# Altium footprint library Texas Instruments Footprints.PcbLib: 429 footprints (part 16 of 32)
Each footprint in its own frame and in the unit in brackets; x right, y up, seen from the top. Pads: shape width x height; smd on the part's side, far side on the other; paste and mask are expansions set on the pad; w line width, h text height; cw(c..) or ccw(c..) is an arc to the next point about the centre after c.
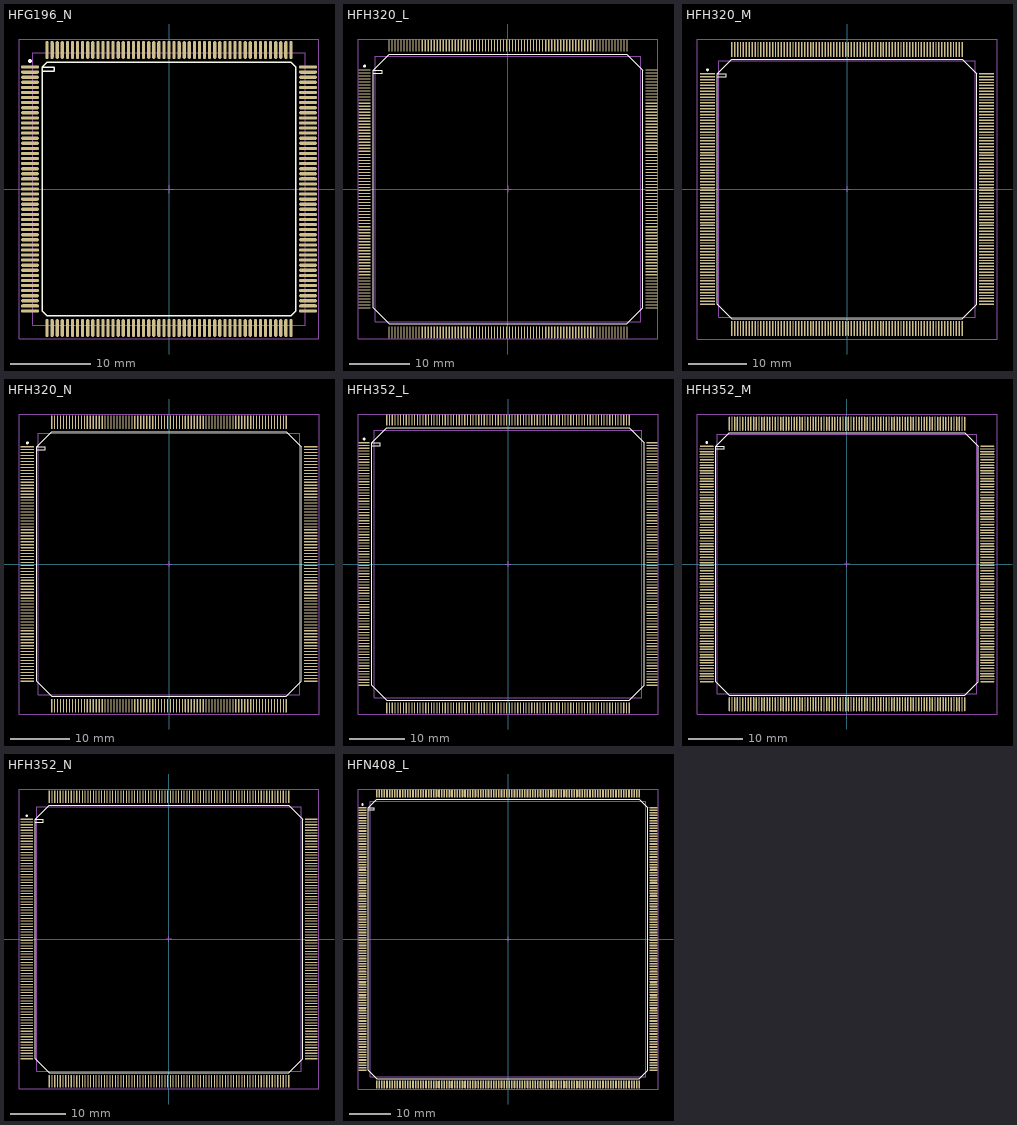
[diagram p15: the footprints below, top view; thin cyan lines are the x and y axes]

## HFG196_N [mm] "196-Pin Ceramic Quad Flat Pack 0.635 mm Pitch, IPC Medium Density"
height 2.7
pads (196):
  oval 2.25x0.4 smd: 1(-17.375,15.24) 2(-17.375,14.605) 3(-17.375,13.97) 4(-17.375,13.335) 5(-17.375,12.7) 6(-17.375,12.065) 7(-17.375,11.43) 8(-17.375,10.795) 9(-17.375,10.16) 10(-17.375,9.525) 11(-17.375,8.89) 12(-17.375,8.255) 13(-17.375,7.62) 14(-17.375,6.985) 15(-17.375,6.35) 16(-17.375,5.715) 17(-17.375,5.08) 18(-17.375,4.445) 19(-17.375,3.81) 20(-17.375,3.175) 21(-17.375,2.54) 22(-17.375,1.905) 23(-17.375,1.27) 24(-17.375,0.635) 25(-17.375,0) 26(-17.375,-0.635) 27(-17.375,-1.27) 28(-17.375,-1.905) 29(-17.375,-2.54) 30(-17.375,-3.175) 31(-17.375,-3.81) 32(-17.375,-4.445) 33(-17.375,-5.08) 34(-17.375,-5.715) 35(-17.375,-6.35) 36(-17.375,-6.985) 37(-17.375,-7.62) 38(-17.375,-8.255) 39(-17.375,-8.89) 40(-17.375,-9.525) 41(-17.375,-10.16) 42(-17.375,-10.795) 43(-17.375,-11.43) 44(-17.375,-12.065) 45(-17.375,-12.7) 46(-17.375,-13.335) 47(-17.375,-13.97) 48(-17.375,-14.605) 49(-17.375,-15.24) 99(17.375,-15.24) 100(17.375,-14.605) 101(17.375,-13.97) 102(17.375,-13.335) 103(17.375,-12.7) 104(17.375,-12.065) 105(17.375,-11.43) 106(17.375,-10.795) 107(17.375,-10.16) 108(17.375,-9.525) 109(17.375,-8.89) 110(17.375,-8.255) 111(17.375,-7.62) 112(17.375,-6.985) 113(17.375,-6.35) 114(17.375,-5.715) 115(17.375,-5.08) 116(17.375,-4.445) 117(17.375,-3.81) 118(17.375,-3.175) 119(17.375,-2.54) 120(17.375,-1.905) 121(17.375,-1.27) 122(17.375,-0.635) 123(17.375,0) 124(17.375,0.635) 125(17.375,1.27) 126(17.375,1.905) 127(17.375,2.54) 128(17.375,3.175) 129(17.375,3.81) 130(17.375,4.445) 131(17.375,5.08) 132(17.375,5.715) 133(17.375,6.35) 134(17.375,6.985) 135(17.375,7.62) 136(17.375,8.255) 137(17.375,8.89) 138(17.375,9.525) 139(17.375,10.16) 140(17.375,10.795) 141(17.375,11.43) 142(17.375,12.065) 143(17.375,12.7) 144(17.375,13.335) 145(17.375,13.97) 146(17.375,14.605) 147(17.375,15.24)
  oval 0.4x2.25 smd: 50(-15.24,-17.375) 51(-14.605,-17.375) 52(-13.97,-17.375) 53(-13.335,-17.375) 54(-12.7,-17.375) 55(-12.065,-17.375) 56(-11.43,-17.375) 57(-10.795,-17.375) 58(-10.16,-17.375) 59(-9.525,-17.375) 60(-8.89,-17.375) 61(-8.255,-17.375) 62(-7.62,-17.375) 63(-6.985,-17.375) 64(-6.35,-17.375) 65(-5.715,-17.375) 66(-5.08,-17.375) 67(-4.445,-17.375) 68(-3.81,-17.375) 69(-3.175,-17.375) 70(-2.54,-17.375) 71(-1.905,-17.375) 72(-1.27,-17.375) 73(-0.635,-17.375) 74(0,-17.375) 75(0.635,-17.375) 76(1.27,-17.375) 77(1.905,-17.375) 78(2.54,-17.375) 79(3.175,-17.375) 80(3.81,-17.375) 81(4.445,-17.375) 82(5.08,-17.375) 83(5.715,-17.375) 84(6.35,-17.375) 85(6.985,-17.375) 86(7.62,-17.375) 87(8.255,-17.375) 88(8.89,-17.375) 89(9.525,-17.375) 90(10.16,-17.375) 91(10.795,-17.375) 92(11.43,-17.375) 93(12.065,-17.375) 94(12.7,-17.375) 95(13.335,-17.375) 96(13.97,-17.375) 97(14.605,-17.375) 98(15.24,-17.375) 148(15.24,17.375) 149(14.605,17.375) 150(13.97,17.375) 151(13.335,17.375) 152(12.7,17.375) 153(12.065,17.375) 154(11.43,17.375) 155(10.795,17.375) 156(10.16,17.375) 157(9.525,17.375) 158(8.89,17.375) 159(8.255,17.375) 160(7.62,17.375) 161(6.985,17.375) 162(6.35,17.375) 163(5.715,17.375) 164(5.08,17.375) 165(4.445,17.375) 166(3.81,17.375) 167(3.175,17.375) 168(2.54,17.375) 169(1.905,17.375) 170(1.27,17.375) 171(0.635,17.375) 172(0,17.375) 173(-0.635,17.375) 174(-1.27,17.375) 175(-1.905,17.375) 176(-2.54,17.375) 177(-3.175,17.375) 178(-3.81,17.375) 179(-4.445,17.375) 180(-5.08,17.375) 181(-5.715,17.375) 182(-6.35,17.375) 183(-6.985,17.375) 184(-7.62,17.375) 185(-8.255,17.375) 186(-8.89,17.375) 187(-9.525,17.375) 188(-10.16,17.375) 189(-10.795,17.375) 190(-11.43,17.375) 191(-12.065,17.375) 192(-12.7,17.375) 193(-13.335,17.375) 194(-13.97,17.375) 195(-14.605,17.375) 196(-15.24,17.375)
Top Overlay:
  circle w0.25: c-17.375,15.99 r0.125
  lines w0.2: -15.85,14.74 -14.35,14.74 -14.35,15.24 -15.85,15.24 ; -15.85,15.24 -15.24,15.85 15.24,15.85 15.85,15.24 15.85,-15.24 15.24,-15.85 -15.24,-15.85 -15.85,-15.24 -15.85,15.24
Mechanical 13:
  lines w0.1: -17.025,-17.025 17.025,-17.025 17.025,17.025 -17.025,17.025 -17.025,-17.025
Mechanical 15:
  lines w0.1: -0.5,0 0.5,0 ; 0,-0.5 0,0.5 ; -18.75,-18.75 18.75,-18.75 18.75,18.75 -18.75,18.75 -18.75,-18.75
3D body: height 2.7, standoff 0, extent -17.025,-17.025 17.025,17.025

## HFH320_L [mm] "QFP; 320 Leads; Body 44 x 44 mm; Pitch 0.5mm, IPC High Density"
height 2.7
pads (320):
  oval 2x0.2 smd: 1(-23.8,19.75) 2(-23.8,19.25) 3(-23.8,18.75) 4(-23.8,18.25) 5(-23.8,17.75) 6(-23.8,17.25) 7(-23.8,16.75) 8(-23.8,16.25) 9(-23.8,15.75) 10(-23.8,15.25) 11(-23.8,14.75) 12(-23.8,14.25) 13(-23.8,13.75) 14(-23.8,13.25) 15(-23.8,12.75) 16(-23.8,12.25) 17(-23.8,11.75) 18(-23.8,11.25) 19(-23.8,10.75) 20(-23.8,10.25) 21(-23.8,9.75) 22(-23.8,9.25) 23(-23.8,8.75) 24(-23.8,8.25) 25(-23.8,7.75) 26(-23.8,7.25) 27(-23.8,6.75) 28(-23.8,6.25) 29(-23.8,5.75) 30(-23.8,5.25) 31(-23.8,4.75) 32(-23.8,4.25) 33(-23.8,3.75) 34(-23.8,3.25) 35(-23.8,2.75) 36(-23.8,2.25) 37(-23.8,1.75) 38(-23.8,1.25) 39(-23.8,0.75) 40(-23.8,0.25) 41(-23.8,-0.25) 42(-23.8,-0.75) 43(-23.8,-1.25) 44(-23.8,-1.75) 45(-23.8,-2.25) 46(-23.8,-2.75) 47(-23.8,-3.25) 48(-23.8,-3.75) 49(-23.8,-4.25) 50(-23.8,-4.75) 51(-23.8,-5.25) 52(-23.8,-5.75) 53(-23.8,-6.25) 54(-23.8,-6.75) 55(-23.8,-7.25) 56(-23.8,-7.75) 57(-23.8,-8.25) 58(-23.8,-8.75) 59(-23.8,-9.25) 60(-23.8,-9.75) 61(-23.8,-10.25) 62(-23.8,-10.75) 63(-23.8,-11.25) 64(-23.8,-11.75) 65(-23.8,-12.25) 66(-23.8,-12.75) 67(-23.8,-13.25) 68(-23.8,-13.75) 69(-23.8,-14.25) 70(-23.8,-14.75) 71(-23.8,-15.25) 72(-23.8,-15.75) 73(-23.8,-16.25) 74(-23.8,-16.75) 75(-23.8,-17.25) 76(-23.8,-17.75) 77(-23.8,-18.25) 78(-23.8,-18.75) 79(-23.8,-19.25) 80(-23.8,-19.75) 161(23.8,-19.75) 162(23.8,-19.25) 163(23.8,-18.75) 164(23.8,-18.25) 165(23.8,-17.75) 166(23.8,-17.25) 167(23.8,-16.75) 168(23.8,-16.25) 169(23.8,-15.75) 170(23.8,-15.25) 171(23.8,-14.75) 172(23.8,-14.25) 173(23.8,-13.75) 174(23.8,-13.25) 175(23.8,-12.75) 176(23.8,-12.25) 177(23.8,-11.75) 178(23.8,-11.25) 179(23.8,-10.75) 180(23.8,-10.25) 181(23.8,-9.75) 182(23.8,-9.25) 183(23.8,-8.75) 184(23.8,-8.25) 185(23.8,-7.75) 186(23.8,-7.25) 187(23.8,-6.75) 188(23.8,-6.25) 189(23.8,-5.75) 190(23.8,-5.25) 191(23.8,-4.75) 192(23.8,-4.25) 193(23.8,-3.75) 194(23.8,-3.25) 195(23.8,-2.75) 196(23.8,-2.25) 197(23.8,-1.75) 198(23.8,-1.25) 199(23.8,-0.75) 200(23.8,-0.25) 201(23.8,0.25) 202(23.8,0.75) 203(23.8,1.25) 204(23.8,1.75) 205(23.8,2.25) 206(23.8,2.75) 207(23.8,3.25) 208(23.8,3.75) 209(23.8,4.25) 210(23.8,4.75) 211(23.8,5.25) 212(23.8,5.75) 213(23.8,6.25) 214(23.8,6.75) 215(23.8,7.25) 216(23.8,7.75) 217(23.8,8.25) 218(23.8,8.75) 219(23.8,9.25) 220(23.8,9.75) 221(23.8,10.25) 222(23.8,10.75) 223(23.8,11.25) 224(23.8,11.75) 225(23.8,12.25) 226(23.8,12.75) 227(23.8,13.25) 228(23.8,13.75) 229(23.8,14.25) 230(23.8,14.75) 231(23.8,15.25) 232(23.8,15.75) 233(23.8,16.25) 234(23.8,16.75) 235(23.8,17.25) 236(23.8,17.75) 237(23.8,18.25) 238(23.8,18.75) 239(23.8,19.25) 240(23.8,19.75)
  oval 0.2x2 smd: 81(-19.75,-23.8) 82(-19.25,-23.8) 83(-18.75,-23.8) 84(-18.25,-23.8) 85(-17.75,-23.8) 86(-17.25,-23.8) 87(-16.75,-23.8) 88(-16.25,-23.8) 89(-15.75,-23.8) 90(-15.25,-23.8) 91(-14.75,-23.8) 92(-14.25,-23.8) 93(-13.75,-23.8) 94(-13.25,-23.8) 95(-12.75,-23.8) 96(-12.25,-23.8) 97(-11.75,-23.8) 98(-11.25,-23.8) 99(-10.75,-23.8) 100(-10.25,-23.8) 101(-9.75,-23.8) 102(-9.25,-23.8) 103(-8.75,-23.8) 104(-8.25,-23.8) 105(-7.75,-23.8) 106(-7.25,-23.8) 107(-6.75,-23.8) 108(-6.25,-23.8) 109(-5.75,-23.8) 110(-5.25,-23.8) 111(-4.75,-23.8) 112(-4.25,-23.8) 113(-3.75,-23.8) 114(-3.25,-23.8) 115(-2.75,-23.8) 116(-2.25,-23.8) 117(-1.75,-23.8) 118(-1.25,-23.8) 119(-0.75,-23.8) 120(-0.25,-23.8) 121(0.25,-23.8) 122(0.75,-23.8) 123(1.25,-23.8) 124(1.75,-23.8) 125(2.25,-23.8) 126(2.75,-23.8) 127(3.25,-23.8) 128(3.75,-23.8) 129(4.25,-23.8) 130(4.75,-23.8) 131(5.25,-23.8) 132(5.75,-23.8) 133(6.25,-23.8) 134(6.75,-23.8) 135(7.25,-23.8) 136(7.75,-23.8) 137(8.25,-23.8) 138(8.75,-23.8) 139(9.25,-23.8) 140(9.75,-23.8) 141(10.25,-23.8) 142(10.75,-23.8) 143(11.25,-23.8) 144(11.75,-23.8) 145(12.25,-23.8) 146(12.75,-23.8) 147(13.25,-23.8) 148(13.75,-23.8) 149(14.25,-23.8) 150(14.75,-23.8) 151(15.25,-23.8) 152(15.75,-23.8) 153(16.25,-23.8) 154(16.75,-23.8) 155(17.25,-23.8) 156(17.75,-23.8) 157(18.25,-23.8) 158(18.75,-23.8) 159(19.25,-23.8) 160(19.75,-23.8) 241(19.75,23.8) 242(19.25,23.8) 243(18.75,23.8) 244(18.25,23.8) 245(17.75,23.8) 246(17.25,23.8) 247(16.75,23.8) 248(16.25,23.8) 249(15.75,23.8) 250(15.25,23.8) 251(14.75,23.8) 252(14.25,23.8) 253(13.75,23.8) 254(13.25,23.8) 255(12.75,23.8) 256(12.25,23.8) 257(11.75,23.8) 258(11.25,23.8) 259(10.75,23.8) 260(10.25,23.8) 261(9.75,23.8) 262(9.25,23.8) 263(8.75,23.8) 264(8.25,23.8) 265(7.75,23.8) 266(7.25,23.8) 267(6.75,23.8) 268(6.25,23.8) 269(5.75,23.8) 270(5.25,23.8) 271(4.75,23.8) 272(4.25,23.8) 273(3.75,23.8) 274(3.25,23.8) 275(2.75,23.8) 276(2.25,23.8) 277(1.75,23.8) 278(1.25,23.8) 279(0.75,23.8) 280(0.25,23.8) 281(-0.25,23.8) 282(-0.75,23.8) 283(-1.25,23.8) 284(-1.75,23.8) 285(-2.25,23.8) 286(-2.75,23.8) 287(-3.25,23.8) 288(-3.75,23.8) 289(-4.25,23.8) 290(-4.75,23.8) 291(-5.25,23.8) 292(-5.75,23.8) 293(-6.25,23.8) 294(-6.75,23.8) 295(-7.25,23.8) 296(-7.75,23.8) 297(-8.25,23.8) 298(-8.75,23.8) 299(-9.25,23.8) 300(-9.75,23.8) 301(-10.25,23.8) 302(-10.75,23.8) 303(-11.25,23.8) 304(-11.75,23.8) 305(-12.25,23.8) 306(-12.75,23.8) 307(-13.25,23.8) 308(-13.75,23.8) 309(-14.25,23.8) 310(-14.75,23.8) 311(-15.25,23.8) 312(-15.75,23.8) 313(-16.25,23.8) 314(-16.75,23.8) 315(-17.25,23.8) 316(-17.75,23.8) 317(-18.25,23.8) 318(-18.75,23.8) 319(-19.25,23.8) 320(-19.75,23.8)
Top Overlay:
  circle w0.25: c-23.8,20.4 r0.125
  lines w0.2: -22.4,19.25 -20.9,19.25 -20.9,19.75 -22.4,19.75 ; -22.4,19.75 -19.75,22.4 19.75,22.4 22.4,19.75 22.4,-19.75 19.75,-22.4 -19.75,-22.4 -22.4,-19.75 -22.4,19.75
Mechanical 13:
  lines w0.1: -22,-22 22,-22 22,22 -22,22 -22,-22
Mechanical 15:
  lines w0.1: -0.5,0 0.5,0 ; 0,-0.5 0,0.5 ; -24.9,-24.9 24.9,-24.9 24.9,24.9 -24.9,24.9 -24.9,-24.9
3D body: height 2.7, standoff 0, extent -22,-22 22,22

## HFH320_M [mm] "QFP; 320 Leads; Body 44 x 44 mm; Pitch 0.5mm, IPC Low Density"
height 2.7
pads (320):
  oval 2.6x0.25 smd: 1(-23.9,19.75) 2(-23.9,19.25) 3(-23.9,18.75) 4(-23.9,18.25) 5(-23.9,17.75) 6(-23.9,17.25) 7(-23.9,16.75) 8(-23.9,16.25) 9(-23.9,15.75) 10(-23.9,15.25) 11(-23.9,14.75) 12(-23.9,14.25) 13(-23.9,13.75) 14(-23.9,13.25) 15(-23.9,12.75) 16(-23.9,12.25) 17(-23.9,11.75) 18(-23.9,11.25) 19(-23.9,10.75) 20(-23.9,10.25) 21(-23.9,9.75) 22(-23.9,9.25) 23(-23.9,8.75) 24(-23.9,8.25) 25(-23.9,7.75) 26(-23.9,7.25) 27(-23.9,6.75) 28(-23.9,6.25) 29(-23.9,5.75) 30(-23.9,5.25) 31(-23.9,4.75) 32(-23.9,4.25) 33(-23.9,3.75) 34(-23.9,3.25) 35(-23.9,2.75) 36(-23.9,2.25) 37(-23.9,1.75) 38(-23.9,1.25) 39(-23.9,0.75) 40(-23.9,0.25) 41(-23.9,-0.25) 42(-23.9,-0.75) 43(-23.9,-1.25) 44(-23.9,-1.75) 45(-23.9,-2.25) 46(-23.9,-2.75) 47(-23.9,-3.25) 48(-23.9,-3.75) 49(-23.9,-4.25) 50(-23.9,-4.75) 51(-23.9,-5.25) 52(-23.9,-5.75) 53(-23.9,-6.25) 54(-23.9,-6.75) 55(-23.9,-7.25) 56(-23.9,-7.75) 57(-23.9,-8.25) 58(-23.9,-8.75) 59(-23.9,-9.25) 60(-23.9,-9.75) 61(-23.9,-10.25) 62(-23.9,-10.75) 63(-23.9,-11.25) 64(-23.9,-11.75) 65(-23.9,-12.25) 66(-23.9,-12.75) 67(-23.9,-13.25) 68(-23.9,-13.75) 69(-23.9,-14.25) 70(-23.9,-14.75) 71(-23.9,-15.25) 72(-23.9,-15.75) 73(-23.9,-16.25) 74(-23.9,-16.75) 75(-23.9,-17.25) 76(-23.9,-17.75) 77(-23.9,-18.25) 78(-23.9,-18.75) 79(-23.9,-19.25) 80(-23.9,-19.75) 161(23.9,-19.75) 162(23.9,-19.25) 163(23.9,-18.75) 164(23.9,-18.25) 165(23.9,-17.75) 166(23.9,-17.25) 167(23.9,-16.75) 168(23.9,-16.25) 169(23.9,-15.75) 170(23.9,-15.25) 171(23.9,-14.75) 172(23.9,-14.25) 173(23.9,-13.75) 174(23.9,-13.25) 175(23.9,-12.75) 176(23.9,-12.25) 177(23.9,-11.75) 178(23.9,-11.25) 179(23.9,-10.75) 180(23.9,-10.25) 181(23.9,-9.75) 182(23.9,-9.25) 183(23.9,-8.75) 184(23.9,-8.25) 185(23.9,-7.75) 186(23.9,-7.25) 187(23.9,-6.75) 188(23.9,-6.25) 189(23.9,-5.75) 190(23.9,-5.25) 191(23.9,-4.75) 192(23.9,-4.25) 193(23.9,-3.75) 194(23.9,-3.25) 195(23.9,-2.75) 196(23.9,-2.25) 197(23.9,-1.75) 198(23.9,-1.25) 199(23.9,-0.75) 200(23.9,-0.25) 201(23.9,0.25) 202(23.9,0.75) 203(23.9,1.25) 204(23.9,1.75) 205(23.9,2.25) 206(23.9,2.75) 207(23.9,3.25) 208(23.9,3.75) 209(23.9,4.25) 210(23.9,4.75) 211(23.9,5.25) 212(23.9,5.75) 213(23.9,6.25) 214(23.9,6.75) 215(23.9,7.25) 216(23.9,7.75) 217(23.9,8.25) 218(23.9,8.75) 219(23.9,9.25) 220(23.9,9.75) 221(23.9,10.25) 222(23.9,10.75) 223(23.9,11.25) 224(23.9,11.75) 225(23.9,12.25) 226(23.9,12.75) 227(23.9,13.25) 228(23.9,13.75) 229(23.9,14.25) 230(23.9,14.75) 231(23.9,15.25) 232(23.9,15.75) 233(23.9,16.25) 234(23.9,16.75) 235(23.9,17.25) 236(23.9,17.75) 237(23.9,18.25) 238(23.9,18.75) 239(23.9,19.25) 240(23.9,19.75)
  oval 0.25x2.6 smd: 81(-19.75,-23.9) 82(-19.25,-23.9) 83(-18.75,-23.9) 84(-18.25,-23.9) 85(-17.75,-23.9) 86(-17.25,-23.9) 87(-16.75,-23.9) 88(-16.25,-23.9) 89(-15.75,-23.9) 90(-15.25,-23.9) 91(-14.75,-23.9) 92(-14.25,-23.9) 93(-13.75,-23.9) 94(-13.25,-23.9) 95(-12.75,-23.9) 96(-12.25,-23.9) 97(-11.75,-23.9) 98(-11.25,-23.9) 99(-10.75,-23.9) 100(-10.25,-23.9) 101(-9.75,-23.9) 102(-9.25,-23.9) 103(-8.75,-23.9) 104(-8.25,-23.9) 105(-7.75,-23.9) 106(-7.25,-23.9) 107(-6.75,-23.9) 108(-6.25,-23.9) 109(-5.75,-23.9) 110(-5.25,-23.9) 111(-4.75,-23.9) 112(-4.25,-23.9) 113(-3.75,-23.9) 114(-3.25,-23.9) 115(-2.75,-23.9) 116(-2.25,-23.9) 117(-1.75,-23.9) 118(-1.25,-23.9) 119(-0.75,-23.9) 120(-0.25,-23.9) 121(0.25,-23.9) 122(0.75,-23.9) 123(1.25,-23.9) 124(1.75,-23.9) 125(2.25,-23.9) 126(2.75,-23.9) 127(3.25,-23.9) 128(3.75,-23.9) 129(4.25,-23.9) 130(4.75,-23.9) 131(5.25,-23.9) 132(5.75,-23.9) 133(6.25,-23.9) 134(6.75,-23.9) 135(7.25,-23.9) 136(7.75,-23.9) 137(8.25,-23.9) 138(8.75,-23.9) 139(9.25,-23.9) 140(9.75,-23.9) 141(10.25,-23.9) 142(10.75,-23.9) 143(11.25,-23.9) 144(11.75,-23.9) 145(12.25,-23.9) 146(12.75,-23.9) 147(13.25,-23.9) 148(13.75,-23.9) 149(14.25,-23.9) 150(14.75,-23.9) 151(15.25,-23.9) 152(15.75,-23.9) 153(16.25,-23.9) 154(16.75,-23.9) 155(17.25,-23.9) 156(17.75,-23.9) 157(18.25,-23.9) 158(18.75,-23.9) 159(19.25,-23.9) 160(19.75,-23.9) 241(19.75,23.9) 242(19.25,23.9) 243(18.75,23.9) 244(18.25,23.9) 245(17.75,23.9) 246(17.25,23.9) 247(16.75,23.9) 248(16.25,23.9) 249(15.75,23.9) 250(15.25,23.9) 251(14.75,23.9) 252(14.25,23.9) 253(13.75,23.9) 254(13.25,23.9) 255(12.75,23.9) 256(12.25,23.9) 257(11.75,23.9) 258(11.25,23.9) 259(10.75,23.9) 260(10.25,23.9) 261(9.75,23.9) 262(9.25,23.9) 263(8.75,23.9) 264(8.25,23.9) 265(7.75,23.9) 266(7.25,23.9) 267(6.75,23.9) 268(6.25,23.9) 269(5.75,23.9) 270(5.25,23.9) 271(4.75,23.9) 272(4.25,23.9) 273(3.75,23.9) 274(3.25,23.9) 275(2.75,23.9) 276(2.25,23.9) 277(1.75,23.9) 278(1.25,23.9) 279(0.75,23.9) 280(0.25,23.9) 281(-0.25,23.9) 282(-0.75,23.9) 283(-1.25,23.9) 284(-1.75,23.9) 285(-2.25,23.9) 286(-2.75,23.9) 287(-3.25,23.9) 288(-3.75,23.9) 289(-4.25,23.9) 290(-4.75,23.9) 291(-5.25,23.9) 292(-5.75,23.9) 293(-6.25,23.9) 294(-6.75,23.9) 295(-7.25,23.9) 296(-7.75,23.9) 297(-8.25,23.9) 298(-8.75,23.9) 299(-9.25,23.9) 300(-9.75,23.9) 301(-10.25,23.9) 302(-10.75,23.9) 303(-11.25,23.9) 304(-11.75,23.9) 305(-12.25,23.9) 306(-12.75,23.9) 307(-13.25,23.9) 308(-13.75,23.9) 309(-14.25,23.9) 310(-14.75,23.9) 311(-15.25,23.9) 312(-15.75,23.9) 313(-16.25,23.9) 314(-16.75,23.9) 315(-17.25,23.9) 316(-17.75,23.9) 317(-18.25,23.9) 318(-18.75,23.9) 319(-19.25,23.9) 320(-19.75,23.9)
Top Overlay:
  circle w0.25: c-23.9,20.425 r0.125
  lines w0.2: -22.2,19.25 -20.7,19.25 -20.7,19.75 -22.2,19.75 ; -22.2,19.75 -19.75,22.2 19.75,22.2 22.2,19.75 22.2,-19.75 19.75,-22.2 -19.75,-22.2 -22.2,-19.75 -22.2,19.75
Mechanical 13:
  lines w0.1: -22,-22 22,-22 22,22 -22,22 -22,-22
Mechanical 15:
  lines w0.1: -0.5,0 0.5,0 ; 0,-0.5 0,0.5 ; -25.7,-25.7 25.7,-25.7 25.7,25.7 -25.7,25.7 -25.7,-25.7
3D body: height 2.7, standoff 0, extent -22,-22 22,22

## HFH320_N [mm] "QFP; 320 Leads; Body 44 x 44 mm; Pitch 0.5mm, IPC Medium Density"
height 2.7
pads (320):
  oval 2.3x0.2 smd: 1(-23.85,19.75) 2(-23.85,19.25) 3(-23.85,18.75) 4(-23.85,18.25) 5(-23.85,17.75) 6(-23.85,17.25) 7(-23.85,16.75) 8(-23.85,16.25) 9(-23.85,15.75) 10(-23.85,15.25) 11(-23.85,14.75) 12(-23.85,14.25) 13(-23.85,13.75) 14(-23.85,13.25) 15(-23.85,12.75) 16(-23.85,12.25) 17(-23.85,11.75) 18(-23.85,11.25) 19(-23.85,10.75) 20(-23.85,10.25) 21(-23.85,9.75) 22(-23.85,9.25) 23(-23.85,8.75) 24(-23.85,8.25) 25(-23.85,7.75) 26(-23.85,7.25) 27(-23.85,6.75) 28(-23.85,6.25) 29(-23.85,5.75) 30(-23.85,5.25) 31(-23.85,4.75) 32(-23.85,4.25) 33(-23.85,3.75) 34(-23.85,3.25) 35(-23.85,2.75) 36(-23.85,2.25) 37(-23.85,1.75) 38(-23.85,1.25) 39(-23.85,0.75) 40(-23.85,0.25) 41(-23.85,-0.25) 42(-23.85,-0.75) 43(-23.85,-1.25) 44(-23.85,-1.75) 45(-23.85,-2.25) 46(-23.85,-2.75) 47(-23.85,-3.25) 48(-23.85,-3.75) 49(-23.85,-4.25) 50(-23.85,-4.75) 51(-23.85,-5.25) 52(-23.85,-5.75) 53(-23.85,-6.25) 54(-23.85,-6.75) 55(-23.85,-7.25) 56(-23.85,-7.75) 57(-23.85,-8.25) 58(-23.85,-8.75) 59(-23.85,-9.25) 60(-23.85,-9.75) 61(-23.85,-10.25) 62(-23.85,-10.75) 63(-23.85,-11.25) 64(-23.85,-11.75) 65(-23.85,-12.25) 66(-23.85,-12.75) 67(-23.85,-13.25) 68(-23.85,-13.75) 69(-23.85,-14.25) 70(-23.85,-14.75) 71(-23.85,-15.25) 72(-23.85,-15.75) 73(-23.85,-16.25) 74(-23.85,-16.75) 75(-23.85,-17.25) 76(-23.85,-17.75) 77(-23.85,-18.25) 78(-23.85,-18.75) 79(-23.85,-19.25) 80(-23.85,-19.75) 161(23.85,-19.75) 162(23.85,-19.25) 163(23.85,-18.75) 164(23.85,-18.25) 165(23.85,-17.75) 166(23.85,-17.25) 167(23.85,-16.75) 168(23.85,-16.25) 169(23.85,-15.75) 170(23.85,-15.25) 171(23.85,-14.75) 172(23.85,-14.25) 173(23.85,-13.75) 174(23.85,-13.25) 175(23.85,-12.75) 176(23.85,-12.25) 177(23.85,-11.75) 178(23.85,-11.25) 179(23.85,-10.75) 180(23.85,-10.25) 181(23.85,-9.75) 182(23.85,-9.25) 183(23.85,-8.75) 184(23.85,-8.25) 185(23.85,-7.75) 186(23.85,-7.25) 187(23.85,-6.75) 188(23.85,-6.25) 189(23.85,-5.75) 190(23.85,-5.25) 191(23.85,-4.75) 192(23.85,-4.25) 193(23.85,-3.75) 194(23.85,-3.25) 195(23.85,-2.75) 196(23.85,-2.25) 197(23.85,-1.75) 198(23.85,-1.25) 199(23.85,-0.75) 200(23.85,-0.25) 201(23.85,0.25) 202(23.85,0.75) 203(23.85,1.25) 204(23.85,1.75) 205(23.85,2.25) 206(23.85,2.75) 207(23.85,3.25) 208(23.85,3.75) 209(23.85,4.25) 210(23.85,4.75) 211(23.85,5.25) 212(23.85,5.75) 213(23.85,6.25) 214(23.85,6.75) 215(23.85,7.25) 216(23.85,7.75) 217(23.85,8.25) 218(23.85,8.75) 219(23.85,9.25) 220(23.85,9.75) 221(23.85,10.25) 222(23.85,10.75) 223(23.85,11.25) 224(23.85,11.75) 225(23.85,12.25) 226(23.85,12.75) 227(23.85,13.25) 228(23.85,13.75) 229(23.85,14.25) 230(23.85,14.75) 231(23.85,15.25) 232(23.85,15.75) 233(23.85,16.25) 234(23.85,16.75) 235(23.85,17.25) 236(23.85,17.75) 237(23.85,18.25) 238(23.85,18.75) 239(23.85,19.25) 240(23.85,19.75)
  oval 0.2x2.3 smd: 81(-19.75,-23.85) 82(-19.25,-23.85) 83(-18.75,-23.85) 84(-18.25,-23.85) 85(-17.75,-23.85) 86(-17.25,-23.85) 87(-16.75,-23.85) 88(-16.25,-23.85) 89(-15.75,-23.85) 90(-15.25,-23.85) 91(-14.75,-23.85) 92(-14.25,-23.85) 93(-13.75,-23.85) 94(-13.25,-23.85) 95(-12.75,-23.85) 96(-12.25,-23.85) 97(-11.75,-23.85) 98(-11.25,-23.85) 99(-10.75,-23.85) 100(-10.25,-23.85) 101(-9.75,-23.85) 102(-9.25,-23.85) 103(-8.75,-23.85) 104(-8.25,-23.85) 105(-7.75,-23.85) 106(-7.25,-23.85) 107(-6.75,-23.85) 108(-6.25,-23.85) 109(-5.75,-23.85) 110(-5.25,-23.85) 111(-4.75,-23.85) 112(-4.25,-23.85) 113(-3.75,-23.85) 114(-3.25,-23.85) 115(-2.75,-23.85) 116(-2.25,-23.85) 117(-1.75,-23.85) 118(-1.25,-23.85) 119(-0.75,-23.85) 120(-0.25,-23.85) 121(0.25,-23.85) 122(0.75,-23.85) 123(1.25,-23.85) 124(1.75,-23.85) 125(2.25,-23.85) 126(2.75,-23.85) 127(3.25,-23.85) 128(3.75,-23.85) 129(4.25,-23.85) 130(4.75,-23.85) 131(5.25,-23.85) 132(5.75,-23.85) 133(6.25,-23.85) 134(6.75,-23.85) 135(7.25,-23.85) 136(7.75,-23.85) 137(8.25,-23.85) 138(8.75,-23.85) 139(9.25,-23.85) 140(9.75,-23.85) 141(10.25,-23.85) 142(10.75,-23.85) 143(11.25,-23.85) 144(11.75,-23.85) 145(12.25,-23.85) 146(12.75,-23.85) 147(13.25,-23.85) 148(13.75,-23.85) 149(14.25,-23.85) 150(14.75,-23.85) 151(15.25,-23.85) 152(15.75,-23.85) 153(16.25,-23.85) 154(16.75,-23.85) 155(17.25,-23.85) 156(17.75,-23.85) 157(18.25,-23.85) 158(18.75,-23.85) 159(19.25,-23.85) 160(19.75,-23.85) 241(19.75,23.85) 242(19.25,23.85) 243(18.75,23.85) 244(18.25,23.85) 245(17.75,23.85) 246(17.25,23.85) 247(16.75,23.85) 248(16.25,23.85) 249(15.75,23.85) 250(15.25,23.85) 251(14.75,23.85) 252(14.25,23.85) 253(13.75,23.85) 254(13.25,23.85) 255(12.75,23.85) 256(12.25,23.85) 257(11.75,23.85) 258(11.25,23.85) 259(10.75,23.85) 260(10.25,23.85) 261(9.75,23.85) 262(9.25,23.85) 263(8.75,23.85) 264(8.25,23.85) 265(7.75,23.85) 266(7.25,23.85) 267(6.75,23.85) 268(6.25,23.85) 269(5.75,23.85) 270(5.25,23.85) 271(4.75,23.85) 272(4.25,23.85) 273(3.75,23.85) 274(3.25,23.85) 275(2.75,23.85) 276(2.25,23.85) 277(1.75,23.85) 278(1.25,23.85) 279(0.75,23.85) 280(0.25,23.85) 281(-0.25,23.85) 282(-0.75,23.85) 283(-1.25,23.85) 284(-1.75,23.85) 285(-2.25,23.85) 286(-2.75,23.85) 287(-3.25,23.85) 288(-3.75,23.85) 289(-4.25,23.85) 290(-4.75,23.85) 291(-5.25,23.85) 292(-5.75,23.85) 293(-6.25,23.85) 294(-6.75,23.85) 295(-7.25,23.85) 296(-7.75,23.85) 297(-8.25,23.85) 298(-8.75,23.85) 299(-9.25,23.85) 300(-9.75,23.85) 301(-10.25,23.85) 302(-10.75,23.85) 303(-11.25,23.85) 304(-11.75,23.85) 305(-12.25,23.85) 306(-12.75,23.85) 307(-13.25,23.85) 308(-13.75,23.85) 309(-14.25,23.85) 310(-14.75,23.85) 311(-15.25,23.85) 312(-15.75,23.85) 313(-16.25,23.85) 314(-16.75,23.85) 315(-17.25,23.85) 316(-17.75,23.85) 317(-18.25,23.85) 318(-18.75,23.85) 319(-19.25,23.85) 320(-19.75,23.85)
Top Overlay:
  circle w0.25: c-23.85,20.4 r0.125
  lines w0.2: -22.3,19.25 -20.8,19.25 -20.8,19.75 -22.3,19.75 ; -22.3,19.75 -22.3,-19.75 -19.75,-22.3 19.75,-22.3 22.3,-19.75 22.3,19.75 19.75,22.3 -19.75,22.3 -22.3,19.75
Mechanical 13:
  lines w0.1: -22,-22 -22,22 22,22 22,-22 -22,-22
Mechanical 15:
  lines w0.1: -0.5,0 0.5,0 ; 0,-0.5 0,0.5 ; -25.25,-25.25 -25.25,25.25 25.25,25.25 25.25,-25.25 -25.25,-25.25
3D body: height 2.7, standoff 0, extent -22,-22 22,22

## HFH352_L [mm] "QFP; 352 Leads; Body 48 x 48 mm; Pitch 0.5mm, IPC High Density"
height 2.8
pads (352):
  oval 2x0.2 smd: 1(-25.8,21.75) 2(-25.8,21.25) 3(-25.8,20.75) 4(-25.8,20.25) 5(-25.8,19.75) 6(-25.8,19.25) 7(-25.8,18.75) 8(-25.8,18.25) 9(-25.8,17.75) 10(-25.8,17.25) 11(-25.8,16.75) 12(-25.8,16.25) 13(-25.8,15.75) 14(-25.8,15.25) 15(-25.8,14.75) 16(-25.8,14.25) 17(-25.8,13.75) 18(-25.8,13.25) 19(-25.8,12.75) 20(-25.8,12.25) 21(-25.8,11.75) 22(-25.8,11.25) 23(-25.8,10.75) 24(-25.8,10.25) 25(-25.8,9.75) 26(-25.8,9.25) 27(-25.8,8.75) 28(-25.8,8.25) 29(-25.8,7.75) 30(-25.8,7.25) 31(-25.8,6.75) 32(-25.8,6.25) 33(-25.8,5.75) 34(-25.8,5.25) 35(-25.8,4.75) 36(-25.8,4.25) 37(-25.8,3.75) 38(-25.8,3.25) 39(-25.8,2.75) 40(-25.8,2.25) 41(-25.8,1.75) 42(-25.8,1.25) 43(-25.8,0.75) 44(-25.8,0.25) 45(-25.8,-0.25) 46(-25.8,-0.75) 47(-25.8,-1.25) 48(-25.8,-1.75) 49(-25.8,-2.25) 50(-25.8,-2.75) 51(-25.8,-3.25) 52(-25.8,-3.75) 53(-25.8,-4.25) 54(-25.8,-4.75) 55(-25.8,-5.25) 56(-25.8,-5.75) 57(-25.8,-6.25) 58(-25.8,-6.75) 59(-25.8,-7.25) 60(-25.8,-7.75) 61(-25.8,-8.25) 62(-25.8,-8.75) 63(-25.8,-9.25) 64(-25.8,-9.75) 65(-25.8,-10.25) 66(-25.8,-10.75) 67(-25.8,-11.25) 68(-25.8,-11.75) 69(-25.8,-12.25) 70(-25.8,-12.75) 71(-25.8,-13.25) 72(-25.8,-13.75) 73(-25.8,-14.25) 74(-25.8,-14.75) 75(-25.8,-15.25) 76(-25.8,-15.75) 77(-25.8,-16.25) 78(-25.8,-16.75) 79(-25.8,-17.25) 80(-25.8,-17.75) 81(-25.8,-18.25) 82(-25.8,-18.75) 83(-25.8,-19.25) 84(-25.8,-19.75) 85(-25.8,-20.25) 86(-25.8,-20.75) 87(-25.8,-21.25) 88(-25.8,-21.75) 177(25.8,-21.75) 178(25.8,-21.25) 179(25.8,-20.75) 180(25.8,-20.25) 181(25.8,-19.75) 182(25.8,-19.25) 183(25.8,-18.75) 184(25.8,-18.25) 185(25.8,-17.75) 186(25.8,-17.25) 187(25.8,-16.75) 188(25.8,-16.25) 189(25.8,-15.75) 190(25.8,-15.25) 191(25.8,-14.75) 192(25.8,-14.25) 193(25.8,-13.75) 194(25.8,-13.25) 195(25.8,-12.75) 196(25.8,-12.25) 197(25.8,-11.75) 198(25.8,-11.25) 199(25.8,-10.75) 200(25.8,-10.25) 201(25.8,-9.75) 202(25.8,-9.25) 203(25.8,-8.75) 204(25.8,-8.25) 205(25.8,-7.75) 206(25.8,-7.25) 207(25.8,-6.75) 208(25.8,-6.25) 209(25.8,-5.75) 210(25.8,-5.25) 211(25.8,-4.75) 212(25.8,-4.25) 213(25.8,-3.75) 214(25.8,-3.25) 215(25.8,-2.75) 216(25.8,-2.25) 217(25.8,-1.75) 218(25.8,-1.25) 219(25.8,-0.75) 220(25.8,-0.25) 221(25.8,0.25) 222(25.8,0.75) 223(25.8,1.25) 224(25.8,1.75) 225(25.8,2.25) 226(25.8,2.75) 227(25.8,3.25) 228(25.8,3.75) 229(25.8,4.25) 230(25.8,4.75) 231(25.8,5.25) 232(25.8,5.75) 233(25.8,6.25) 234(25.8,6.75) 235(25.8,7.25) 236(25.8,7.75) 237(25.8,8.25) 238(25.8,8.75) 239(25.8,9.25) 240(25.8,9.75) 241(25.8,10.25) 242(25.8,10.75) 243(25.8,11.25) 244(25.8,11.75) 245(25.8,12.25) 246(25.8,12.75) 247(25.8,13.25) 248(25.8,13.75) 249(25.8,14.25) 250(25.8,14.75) 251(25.8,15.25) 252(25.8,15.75) 253(25.8,16.25) 254(25.8,16.75) 255(25.8,17.25) 256(25.8,17.75) 257(25.8,18.25) 258(25.8,18.75) 259(25.8,19.25) 260(25.8,19.75) 261(25.8,20.25) 262(25.8,20.75) 263(25.8,21.25) 264(25.8,21.75)
  oval 0.2x2 smd: 89(-21.75,-25.8) 90(-21.25,-25.8) 91(-20.75,-25.8) 92(-20.25,-25.8) 93(-19.75,-25.8) 94(-19.25,-25.8) 95(-18.75,-25.8) 96(-18.25,-25.8) 97(-17.75,-25.8) 98(-17.25,-25.8) 99(-16.75,-25.8) 100(-16.25,-25.8) 101(-15.75,-25.8) 102(-15.25,-25.8) 103(-14.75,-25.8) 104(-14.25,-25.8) 105(-13.75,-25.8) 106(-13.25,-25.8) 107(-12.75,-25.8) 108(-12.25,-25.8) 109(-11.75,-25.8) 110(-11.25,-25.8) 111(-10.75,-25.8) 112(-10.25,-25.8) 113(-9.75,-25.8) 114(-9.25,-25.8) 115(-8.75,-25.8) 116(-8.25,-25.8) 117(-7.75,-25.8) 118(-7.25,-25.8) 119(-6.75,-25.8) 120(-6.25,-25.8) 121(-5.75,-25.8) 122(-5.25,-25.8) 123(-4.75,-25.8) 124(-4.25,-25.8) 125(-3.75,-25.8) 126(-3.25,-25.8) 127(-2.75,-25.8) 128(-2.25,-25.8) 129(-1.75,-25.8) 130(-1.25,-25.8) 131(-0.75,-25.8) 132(-0.25,-25.8) 133(0.25,-25.8) 134(0.75,-25.8) 135(1.25,-25.8) 136(1.75,-25.8) 137(2.25,-25.8) 138(2.75,-25.8) 139(3.25,-25.8) 140(3.75,-25.8) 141(4.25,-25.8) 142(4.75,-25.8) 143(5.25,-25.8) 144(5.75,-25.8) 145(6.25,-25.8) 146(6.75,-25.8) 147(7.25,-25.8) 148(7.75,-25.8) 149(8.25,-25.8) 150(8.75,-25.8) 151(9.25,-25.8) 152(9.75,-25.8) 153(10.25,-25.8) 154(10.75,-25.8) 155(11.25,-25.8) 156(11.75,-25.8) 157(12.25,-25.8) 158(12.75,-25.8) 159(13.25,-25.8) 160(13.75,-25.8) 161(14.25,-25.8) 162(14.75,-25.8) 163(15.25,-25.8) 164(15.75,-25.8) 165(16.25,-25.8) 166(16.75,-25.8) 167(17.25,-25.8) 168(17.75,-25.8) 169(18.25,-25.8) 170(18.75,-25.8) 171(19.25,-25.8) 172(19.75,-25.8) 173(20.25,-25.8) 174(20.75,-25.8) 175(21.25,-25.8) 176(21.75,-25.8) 265(21.75,25.8) 266(21.25,25.8) 267(20.75,25.8) 268(20.25,25.8) 269(19.75,25.8) 270(19.25,25.8) 271(18.75,25.8) 272(18.25,25.8) 273(17.75,25.8) 274(17.25,25.8) 275(16.75,25.8) 276(16.25,25.8) 277(15.75,25.8) 278(15.25,25.8) 279(14.75,25.8) 280(14.25,25.8) 281(13.75,25.8) 282(13.25,25.8) 283(12.75,25.8) 284(12.25,25.8) 285(11.75,25.8) 286(11.25,25.8) 287(10.75,25.8) 288(10.25,25.8) 289(9.75,25.8) 290(9.25,25.8) 291(8.75,25.8) 292(8.25,25.8) 293(7.75,25.8) 294(7.25,25.8) 295(6.75,25.8) 296(6.25,25.8) 297(5.75,25.8) 298(5.25,25.8) 299(4.75,25.8) 300(4.25,25.8) 301(3.75,25.8) 302(3.25,25.8) 303(2.75,25.8) 304(2.25,25.8) 305(1.75,25.8) 306(1.25,25.8) 307(0.75,25.8) 308(0.25,25.8) 309(-0.25,25.8) 310(-0.75,25.8) 311(-1.25,25.8) 312(-1.75,25.8) 313(-2.25,25.8) 314(-2.75,25.8) 315(-3.25,25.8) 316(-3.75,25.8) 317(-4.25,25.8) 318(-4.75,25.8) 319(-5.25,25.8) 320(-5.75,25.8) 321(-6.25,25.8) 322(-6.75,25.8) 323(-7.25,25.8) 324(-7.75,25.8) 325(-8.25,25.8) 326(-8.75,25.8) 327(-9.25,25.8) 328(-9.75,25.8) 329(-10.25,25.8) 330(-10.75,25.8) 331(-11.25,25.8) 332(-11.75,25.8) 333(-12.25,25.8) 334(-12.75,25.8) 335(-13.25,25.8) 336(-13.75,25.8) 337(-14.25,25.8) 338(-14.75,25.8) 339(-15.25,25.8) 340(-15.75,25.8) 341(-16.25,25.8) 342(-16.75,25.8) 343(-17.25,25.8) 344(-17.75,25.8) 345(-18.25,25.8) 346(-18.75,25.8) 347(-19.25,25.8) 348(-19.75,25.8) 349(-20.25,25.8) 350(-20.75,25.8) 351(-21.25,25.8) 352(-21.75,25.8)
Top Overlay:
  circle w0.25: c-25.8,22.4 r0.125
  lines w0.2: -24.4,21.25 -22.9,21.25 -22.9,21.75 -24.4,21.75 ; -24.4,21.75 -24.4,-21.75 -21.75,-24.4 21.75,-24.4 24.4,-21.75 24.4,21.75 21.75,24.4 -21.75,24.4 -24.4,21.75
Mechanical 13:
  lines w0.1: -24,-24 -24,24 24,24 24,-24 -24,-24
Mechanical 15:
  lines w0.1: -0.5,0 0.5,0 ; 0,-0.5 0,0.5 ; -26.9,-26.9 -26.9,26.9 26.9,26.9 26.9,-26.9 -26.9,-26.9
3D body: height 2.8, standoff 0, extent -24,-24 24,24

## HFH352_M [mm] "QFP; 352 Leads; Body 48 x 48 mm; Pitch 0.5mm, IPC Low Density"
height 2.8
pads (352):
  oval 2.6x0.25 smd: 1(-25.9,21.75) 2(-25.9,21.25) 3(-25.9,20.75) 4(-25.9,20.25) 5(-25.9,19.75) 6(-25.9,19.25) 7(-25.9,18.75) 8(-25.9,18.25) 9(-25.9,17.75) 10(-25.9,17.25) 11(-25.9,16.75) 12(-25.9,16.25) 13(-25.9,15.75) 14(-25.9,15.25) 15(-25.9,14.75) 16(-25.9,14.25) 17(-25.9,13.75) 18(-25.9,13.25) 19(-25.9,12.75) 20(-25.9,12.25) 21(-25.9,11.75) 22(-25.9,11.25) 23(-25.9,10.75) 24(-25.9,10.25) 25(-25.9,9.75) 26(-25.9,9.25) 27(-25.9,8.75) 28(-25.9,8.25) 29(-25.9,7.75) 30(-25.9,7.25) 31(-25.9,6.75) 32(-25.9,6.25) 33(-25.9,5.75) 34(-25.9,5.25) 35(-25.9,4.75) 36(-25.9,4.25) 37(-25.9,3.75) 38(-25.9,3.25) 39(-25.9,2.75) 40(-25.9,2.25) 41(-25.9,1.75) 42(-25.9,1.25) 43(-25.9,0.75) 44(-25.9,0.25) 45(-25.9,-0.25) 46(-25.9,-0.75) 47(-25.9,-1.25) 48(-25.9,-1.75) 49(-25.9,-2.25) 50(-25.9,-2.75) 51(-25.9,-3.25) 52(-25.9,-3.75) 53(-25.9,-4.25) 54(-25.9,-4.75) 55(-25.9,-5.25) 56(-25.9,-5.75) 57(-25.9,-6.25) 58(-25.9,-6.75) 59(-25.9,-7.25) 60(-25.9,-7.75) 61(-25.9,-8.25) 62(-25.9,-8.75) 63(-25.9,-9.25) 64(-25.9,-9.75) 65(-25.9,-10.25) 66(-25.9,-10.75) 67(-25.9,-11.25) 68(-25.9,-11.75) 69(-25.9,-12.25) 70(-25.9,-12.75) 71(-25.9,-13.25) 72(-25.9,-13.75) 73(-25.9,-14.25) 74(-25.9,-14.75) 75(-25.9,-15.25) 76(-25.9,-15.75) 77(-25.9,-16.25) 78(-25.9,-16.75) 79(-25.9,-17.25) 80(-25.9,-17.75) 81(-25.9,-18.25) 82(-25.9,-18.75) 83(-25.9,-19.25) 84(-25.9,-19.75) 85(-25.9,-20.25) 86(-25.9,-20.75) 87(-25.9,-21.25) 88(-25.9,-21.75) 177(25.9,-21.75) 178(25.9,-21.25) 179(25.9,-20.75) 180(25.9,-20.25) 181(25.9,-19.75) 182(25.9,-19.25) 183(25.9,-18.75) 184(25.9,-18.25) 185(25.9,-17.75) 186(25.9,-17.25) 187(25.9,-16.75) 188(25.9,-16.25) 189(25.9,-15.75) 190(25.9,-15.25) 191(25.9,-14.75) 192(25.9,-14.25) 193(25.9,-13.75) 194(25.9,-13.25) 195(25.9,-12.75) 196(25.9,-12.25) 197(25.9,-11.75) 198(25.9,-11.25) 199(25.9,-10.75) 200(25.9,-10.25) 201(25.9,-9.75) 202(25.9,-9.25) 203(25.9,-8.75) 204(25.9,-8.25) 205(25.9,-7.75) 206(25.9,-7.25) 207(25.9,-6.75) 208(25.9,-6.25) 209(25.9,-5.75) 210(25.9,-5.25) 211(25.9,-4.75) 212(25.9,-4.25) 213(25.9,-3.75) 214(25.9,-3.25) 215(25.9,-2.75) 216(25.9,-2.25) 217(25.9,-1.75) 218(25.9,-1.25) 219(25.9,-0.75) 220(25.9,-0.25) 221(25.9,0.25) 222(25.9,0.75) 223(25.9,1.25) 224(25.9,1.75) 225(25.9,2.25) 226(25.9,2.75) 227(25.9,3.25) 228(25.9,3.75) 229(25.9,4.25) 230(25.9,4.75) 231(25.9,5.25) 232(25.9,5.75) 233(25.9,6.25) 234(25.9,6.75) 235(25.9,7.25) 236(25.9,7.75) 237(25.9,8.25) 238(25.9,8.75) 239(25.9,9.25) 240(25.9,9.75) 241(25.9,10.25) 242(25.9,10.75) 243(25.9,11.25) 244(25.9,11.75) 245(25.9,12.25) 246(25.9,12.75) 247(25.9,13.25) 248(25.9,13.75) 249(25.9,14.25) 250(25.9,14.75) 251(25.9,15.25) 252(25.9,15.75) 253(25.9,16.25) 254(25.9,16.75) 255(25.9,17.25) 256(25.9,17.75) 257(25.9,18.25) 258(25.9,18.75) 259(25.9,19.25) 260(25.9,19.75) 261(25.9,20.25) 262(25.9,20.75) 263(25.9,21.25) 264(25.9,21.75)
  oval 0.25x2.6 smd: 89(-21.75,-25.9) 90(-21.25,-25.9) 91(-20.75,-25.9) 92(-20.25,-25.9) 93(-19.75,-25.9) 94(-19.25,-25.9) 95(-18.75,-25.9) 96(-18.25,-25.9) 97(-17.75,-25.9) 98(-17.25,-25.9) 99(-16.75,-25.9) 100(-16.25,-25.9) 101(-15.75,-25.9) 102(-15.25,-25.9) 103(-14.75,-25.9) 104(-14.25,-25.9) 105(-13.75,-25.9) 106(-13.25,-25.9) 107(-12.75,-25.9) 108(-12.25,-25.9) 109(-11.75,-25.9) 110(-11.25,-25.9) 111(-10.75,-25.9) 112(-10.25,-25.9) 113(-9.75,-25.9) 114(-9.25,-25.9) 115(-8.75,-25.9) 116(-8.25,-25.9) 117(-7.75,-25.9) 118(-7.25,-25.9) 119(-6.75,-25.9) 120(-6.25,-25.9) 121(-5.75,-25.9) 122(-5.25,-25.9) 123(-4.75,-25.9) 124(-4.25,-25.9) 125(-3.75,-25.9) 126(-3.25,-25.9) 127(-2.75,-25.9) 128(-2.25,-25.9) 129(-1.75,-25.9) 130(-1.25,-25.9) 131(-0.75,-25.9) 132(-0.25,-25.9) 133(0.25,-25.9) 134(0.75,-25.9) 135(1.25,-25.9) 136(1.75,-25.9) 137(2.25,-25.9) 138(2.75,-25.9) 139(3.25,-25.9) 140(3.75,-25.9) 141(4.25,-25.9) 142(4.75,-25.9) 143(5.25,-25.9) 144(5.75,-25.9) 145(6.25,-25.9) 146(6.75,-25.9) 147(7.25,-25.9) 148(7.75,-25.9) 149(8.25,-25.9) 150(8.75,-25.9) 151(9.25,-25.9) 152(9.75,-25.9) 153(10.25,-25.9) 154(10.75,-25.9) 155(11.25,-25.9) 156(11.75,-25.9) 157(12.25,-25.9) 158(12.75,-25.9) 159(13.25,-25.9) 160(13.75,-25.9) 161(14.25,-25.9) 162(14.75,-25.9) 163(15.25,-25.9) 164(15.75,-25.9) 165(16.25,-25.9) 166(16.75,-25.9) 167(17.25,-25.9) 168(17.75,-25.9) 169(18.25,-25.9) 170(18.75,-25.9) 171(19.25,-25.9) 172(19.75,-25.9) 173(20.25,-25.9) 174(20.75,-25.9) 175(21.25,-25.9) 176(21.75,-25.9) 265(21.75,25.9) 266(21.25,25.9) 267(20.75,25.9) 268(20.25,25.9) 269(19.75,25.9) 270(19.25,25.9) 271(18.75,25.9) 272(18.25,25.9) 273(17.75,25.9) 274(17.25,25.9) 275(16.75,25.9) 276(16.25,25.9) 277(15.75,25.9) 278(15.25,25.9) 279(14.75,25.9) 280(14.25,25.9) 281(13.75,25.9) 282(13.25,25.9) 283(12.75,25.9) 284(12.25,25.9) 285(11.75,25.9) 286(11.25,25.9) 287(10.75,25.9) 288(10.25,25.9) 289(9.75,25.9) 290(9.25,25.9) 291(8.75,25.9) 292(8.25,25.9) 293(7.75,25.9) 294(7.25,25.9) 295(6.75,25.9) 296(6.25,25.9) 297(5.75,25.9) 298(5.25,25.9) 299(4.75,25.9) 300(4.25,25.9) 301(3.75,25.9) 302(3.25,25.9) 303(2.75,25.9) 304(2.25,25.9) 305(1.75,25.9) 306(1.25,25.9) 307(0.75,25.9) 308(0.25,25.9) 309(-0.25,25.9) 310(-0.75,25.9) 311(-1.25,25.9) 312(-1.75,25.9) 313(-2.25,25.9) 314(-2.75,25.9) 315(-3.25,25.9) 316(-3.75,25.9) 317(-4.25,25.9) 318(-4.75,25.9) 319(-5.25,25.9) 320(-5.75,25.9) 321(-6.25,25.9) 322(-6.75,25.9) 323(-7.25,25.9) 324(-7.75,25.9) 325(-8.25,25.9) 326(-8.75,25.9) 327(-9.25,25.9) 328(-9.75,25.9) 329(-10.25,25.9) 330(-10.75,25.9) 331(-11.25,25.9) 332(-11.75,25.9) 333(-12.25,25.9) 334(-12.75,25.9) 335(-13.25,25.9) 336(-13.75,25.9) 337(-14.25,25.9) 338(-14.75,25.9) 339(-15.25,25.9) 340(-15.75,25.9) 341(-16.25,25.9) 342(-16.75,25.9) 343(-17.25,25.9) 344(-17.75,25.9) 345(-18.25,25.9) 346(-18.75,25.9) 347(-19.25,25.9) 348(-19.75,25.9) 349(-20.25,25.9) 350(-20.75,25.9) 351(-21.25,25.9) 352(-21.75,25.9)
Top Overlay:
  circle w0.25: c-25.9,22.425 r0.125
  lines w0.2: -24.2,21.25 -22.7,21.25 -22.7,21.75 -24.2,21.75 ; -24.2,21.75 -24.2,-21.75 -21.75,-24.2 21.75,-24.2 24.2,-21.75 24.2,21.75 21.75,24.2 -21.75,24.2 -24.2,21.75
Mechanical 13:
  lines w0.1: -24,-24 -24,24 24,24 24,-24 -24,-24
Mechanical 15:
  lines w0.1: -0.5,0 0.5,0 ; 0,-0.5 0,0.5 ; -27.7,-27.7 -27.7,27.7 27.7,27.7 27.7,-27.7 -27.7,-27.7
3D body: height 2.8, standoff 0, extent -24,-24 24,24

## HFH352_N [mm] "QFP; 352 Leads; Body 48 x 48 mm; Pitch 0.5mm, IPC Medium Density"
height 2.8
pads (352):
  oval 2.3x0.2 smd: 1(-25.85,21.75) 2(-25.85,21.25) 3(-25.85,20.75) 4(-25.85,20.25) 5(-25.85,19.75) 6(-25.85,19.25) 7(-25.85,18.75) 8(-25.85,18.25) 9(-25.85,17.75) 10(-25.85,17.25) 11(-25.85,16.75) 12(-25.85,16.25) 13(-25.85,15.75) 14(-25.85,15.25) 15(-25.85,14.75) 16(-25.85,14.25) 17(-25.85,13.75) 18(-25.85,13.25) 19(-25.85,12.75) 20(-25.85,12.25) 21(-25.85,11.75) 22(-25.85,11.25) 23(-25.85,10.75) 24(-25.85,10.25) 25(-25.85,9.75) 26(-25.85,9.25) 27(-25.85,8.75) 28(-25.85,8.25) 29(-25.85,7.75) 30(-25.85,7.25) 31(-25.85,6.75) 32(-25.85,6.25) 33(-25.85,5.75) 34(-25.85,5.25) 35(-25.85,4.75) 36(-25.85,4.25) 37(-25.85,3.75) 38(-25.85,3.25) 39(-25.85,2.75) 40(-25.85,2.25) 41(-25.85,1.75) 42(-25.85,1.25) 43(-25.85,0.75) 44(-25.85,0.25) 45(-25.85,-0.25) 46(-25.85,-0.75) 47(-25.85,-1.25) 48(-25.85,-1.75) 49(-25.85,-2.25) 50(-25.85,-2.75) 51(-25.85,-3.25) 52(-25.85,-3.75) 53(-25.85,-4.25) 54(-25.85,-4.75) 55(-25.85,-5.25) 56(-25.85,-5.75) 57(-25.85,-6.25) 58(-25.85,-6.75) 59(-25.85,-7.25) 60(-25.85,-7.75) 61(-25.85,-8.25) 62(-25.85,-8.75) 63(-25.85,-9.25) 64(-25.85,-9.75) 65(-25.85,-10.25) 66(-25.85,-10.75) 67(-25.85,-11.25) 68(-25.85,-11.75) 69(-25.85,-12.25) 70(-25.85,-12.75) 71(-25.85,-13.25) 72(-25.85,-13.75) 73(-25.85,-14.25) 74(-25.85,-14.75) 75(-25.85,-15.25) 76(-25.85,-15.75) 77(-25.85,-16.25) 78(-25.85,-16.75) 79(-25.85,-17.25) 80(-25.85,-17.75) 81(-25.85,-18.25) 82(-25.85,-18.75) 83(-25.85,-19.25) 84(-25.85,-19.75) 85(-25.85,-20.25) 86(-25.85,-20.75) 87(-25.85,-21.25) 88(-25.85,-21.75) 177(25.85,-21.75) 178(25.85,-21.25) 179(25.85,-20.75) 180(25.85,-20.25) 181(25.85,-19.75) 182(25.85,-19.25) 183(25.85,-18.75) 184(25.85,-18.25) 185(25.85,-17.75) 186(25.85,-17.25) 187(25.85,-16.75) 188(25.85,-16.25) 189(25.85,-15.75) 190(25.85,-15.25) 191(25.85,-14.75) 192(25.85,-14.25) 193(25.85,-13.75) 194(25.85,-13.25) 195(25.85,-12.75) 196(25.85,-12.25) 197(25.85,-11.75) 198(25.85,-11.25) 199(25.85,-10.75) 200(25.85,-10.25) 201(25.85,-9.75) 202(25.85,-9.25) 203(25.85,-8.75) 204(25.85,-8.25) 205(25.85,-7.75) 206(25.85,-7.25) 207(25.85,-6.75) 208(25.85,-6.25) 209(25.85,-5.75) 210(25.85,-5.25) 211(25.85,-4.75) 212(25.85,-4.25) 213(25.85,-3.75) 214(25.85,-3.25) 215(25.85,-2.75) 216(25.85,-2.25) 217(25.85,-1.75) 218(25.85,-1.25) 219(25.85,-0.75) 220(25.85,-0.25) 221(25.85,0.25) 222(25.85,0.75) 223(25.85,1.25) 224(25.85,1.75) 225(25.85,2.25) 226(25.85,2.75) 227(25.85,3.25) 228(25.85,3.75) 229(25.85,4.25) 230(25.85,4.75) 231(25.85,5.25) 232(25.85,5.75) 233(25.85,6.25) 234(25.85,6.75) 235(25.85,7.25) 236(25.85,7.75) 237(25.85,8.25) 238(25.85,8.75) 239(25.85,9.25) 240(25.85,9.75) 241(25.85,10.25) 242(25.85,10.75) 243(25.85,11.25) 244(25.85,11.75) 245(25.85,12.25) 246(25.85,12.75) 247(25.85,13.25) 248(25.85,13.75) 249(25.85,14.25) 250(25.85,14.75) 251(25.85,15.25) 252(25.85,15.75) 253(25.85,16.25) 254(25.85,16.75) 255(25.85,17.25) 256(25.85,17.75) 257(25.85,18.25) 258(25.85,18.75) 259(25.85,19.25) 260(25.85,19.75) 261(25.85,20.25) 262(25.85,20.75) 263(25.85,21.25) 264(25.85,21.75)
  oval 0.2x2.3 smd: 89(-21.75,-25.85) 90(-21.25,-25.85) 91(-20.75,-25.85) 92(-20.25,-25.85) 93(-19.75,-25.85) 94(-19.25,-25.85) 95(-18.75,-25.85) 96(-18.25,-25.85) 97(-17.75,-25.85) 98(-17.25,-25.85) 99(-16.75,-25.85) 100(-16.25,-25.85) 101(-15.75,-25.85) 102(-15.25,-25.85) 103(-14.75,-25.85) 104(-14.25,-25.85) 105(-13.75,-25.85) 106(-13.25,-25.85) 107(-12.75,-25.85) 108(-12.25,-25.85) 109(-11.75,-25.85) 110(-11.25,-25.85) 111(-10.75,-25.85) 112(-10.25,-25.85) 113(-9.75,-25.85) 114(-9.25,-25.85) 115(-8.75,-25.85) 116(-8.25,-25.85) 117(-7.75,-25.85) 118(-7.25,-25.85) 119(-6.75,-25.85) 120(-6.25,-25.85) 121(-5.75,-25.85) 122(-5.25,-25.85) 123(-4.75,-25.85) 124(-4.25,-25.85) 125(-3.75,-25.85) 126(-3.25,-25.85) 127(-2.75,-25.85) 128(-2.25,-25.85) 129(-1.75,-25.85) 130(-1.25,-25.85) 131(-0.75,-25.85) 132(-0.25,-25.85) 133(0.25,-25.85) 134(0.75,-25.85) 135(1.25,-25.85) 136(1.75,-25.85) 137(2.25,-25.85) 138(2.75,-25.85) 139(3.25,-25.85) 140(3.75,-25.85) 141(4.25,-25.85) 142(4.75,-25.85) 143(5.25,-25.85) 144(5.75,-25.85) 145(6.25,-25.85) 146(6.75,-25.85) 147(7.25,-25.85) 148(7.75,-25.85) 149(8.25,-25.85) 150(8.75,-25.85) 151(9.25,-25.85) 152(9.75,-25.85) 153(10.25,-25.85) 154(10.75,-25.85) 155(11.25,-25.85) 156(11.75,-25.85) 157(12.25,-25.85) 158(12.75,-25.85) 159(13.25,-25.85) 160(13.75,-25.85) 161(14.25,-25.85) 162(14.75,-25.85) 163(15.25,-25.85) 164(15.75,-25.85) 165(16.25,-25.85) 166(16.75,-25.85) 167(17.25,-25.85) 168(17.75,-25.85) 169(18.25,-25.85) 170(18.75,-25.85) 171(19.25,-25.85) 172(19.75,-25.85) 173(20.25,-25.85) 174(20.75,-25.85) 175(21.25,-25.85) 176(21.75,-25.85) 265(21.75,25.85) 266(21.25,25.85) 267(20.75,25.85) 268(20.25,25.85) 269(19.75,25.85) 270(19.25,25.85) 271(18.75,25.85) 272(18.25,25.85) 273(17.75,25.85) 274(17.25,25.85) 275(16.75,25.85) 276(16.25,25.85) 277(15.75,25.85) 278(15.25,25.85) 279(14.75,25.85) 280(14.25,25.85) 281(13.75,25.85) 282(13.25,25.85) 283(12.75,25.85) 284(12.25,25.85) 285(11.75,25.85) 286(11.25,25.85) 287(10.75,25.85) 288(10.25,25.85) 289(9.75,25.85) 290(9.25,25.85) 291(8.75,25.85) 292(8.25,25.85) 293(7.75,25.85) 294(7.25,25.85) 295(6.75,25.85) 296(6.25,25.85) 297(5.75,25.85) 298(5.25,25.85) 299(4.75,25.85) 300(4.25,25.85) 301(3.75,25.85) 302(3.25,25.85) 303(2.75,25.85) 304(2.25,25.85) 305(1.75,25.85) 306(1.25,25.85) 307(0.75,25.85) 308(0.25,25.85) 309(-0.25,25.85) 310(-0.75,25.85) 311(-1.25,25.85) 312(-1.75,25.85) 313(-2.25,25.85) 314(-2.75,25.85) 315(-3.25,25.85) 316(-3.75,25.85) 317(-4.25,25.85) 318(-4.75,25.85) 319(-5.25,25.85) 320(-5.75,25.85) 321(-6.25,25.85) 322(-6.75,25.85) 323(-7.25,25.85) 324(-7.75,25.85) 325(-8.25,25.85) 326(-8.75,25.85) 327(-9.25,25.85) 328(-9.75,25.85) 329(-10.25,25.85) 330(-10.75,25.85) 331(-11.25,25.85) 332(-11.75,25.85) 333(-12.25,25.85) 334(-12.75,25.85) 335(-13.25,25.85) 336(-13.75,25.85) 337(-14.25,25.85) 338(-14.75,25.85) 339(-15.25,25.85) 340(-15.75,25.85) 341(-16.25,25.85) 342(-16.75,25.85) 343(-17.25,25.85) 344(-17.75,25.85) 345(-18.25,25.85) 346(-18.75,25.85) 347(-19.25,25.85) 348(-19.75,25.85) 349(-20.25,25.85) 350(-20.75,25.85) 351(-21.25,25.85) 352(-21.75,25.85)
Top Overlay:
  circle w0.25: c-25.85,22.4 r0.125
  lines w0.2: -24.3,21.25 -22.8,21.25 -22.8,21.75 -24.3,21.75 ; -24.3,21.75 -21.75,24.3 21.75,24.3 24.3,21.75 24.3,-21.75 21.75,-24.3 -21.75,-24.3 -24.3,-21.75 -24.3,21.75
Mechanical 13:
  lines w0.1: -24,-24 24,-24 24,24 -24,24 -24,-24
Mechanical 15:
  lines w0.1: -0.5,0 0.5,0 ; 0,-0.5 0,0.5 ; -27.25,-27.25 27.25,-27.25 27.25,27.25 -27.25,27.25 -27.25,-27.25
3D body: height 2.8, standoff 0, extent -24,-24 24,24

## HFN408_L [mm] "408-Pin Ceramic Quad Flat Pack 0.635 mm Pitch, IPC High Density"
height 2.5
pads (408):
  oval 2x0.4 smd: 1(-35.5,32.067) 2(-35.5,31.432) 3(-35.5,30.797) 4(-35.5,30.162) 5(-35.5,29.527) 6(-35.5,28.892) 7(-35.5,28.258) 8(-35.5,27.622) 9(-35.5,26.987) 10(-35.5,26.352) 11(-35.5,25.717) 12(-35.5,25.082) 13(-35.5,24.447) 14(-35.5,23.812) 15(-35.5,23.177) 16(-35.5,22.543) 17(-35.5,21.907) 18(-35.5,21.273) 19(-35.5,20.637) 20(-35.5,20.002) 21(-35.5,19.367) 22(-35.5,18.732) 23(-35.5,18.098) 24(-35.5,17.462) 25(-35.5,16.828) 26(-35.5,16.192) 27(-35.5,15.557) 28(-35.5,14.922) 29(-35.5,14.287) 30(-35.5,13.652) 31(-35.5,13.018) 32(-35.5,12.383) 33(-35.5,11.747) 34(-35.5,11.112) 35(-35.5,10.477) 36(-35.5,9.842) 37(-35.5,9.207) 38(-35.5,8.572) 39(-35.5,7.938) 40(-35.5,7.302) 41(-35.5,6.667) 42(-35.5,6.032) 43(-35.5,5.397) 44(-35.5,4.763) 45(-35.5,4.127) 46(-35.5,3.492) 47(-35.5,2.857) 48(-35.5,2.222) 49(-35.5,1.587) 50(-35.5,0.953) 51(-35.5,0.318) 52(-35.5,-0.318) 53(-35.5,-0.953) 54(-35.5,-1.587) 55(-35.5,-2.222) 56(-35.5,-2.857) 57(-35.5,-3.492) 58(-35.5,-4.127) 59(-35.5,-4.763) 60(-35.5,-5.397) 61(-35.5,-6.032) 62(-35.5,-6.667) 63(-35.5,-7.302) 64(-35.5,-7.938) 65(-35.5,-8.572) 66(-35.5,-9.207) 67(-35.5,-9.842) 68(-35.5,-10.477) 69(-35.5,-11.112) 70(-35.5,-11.747) 71(-35.5,-12.383) 72(-35.5,-13.018) 73(-35.5,-13.652) 74(-35.5,-14.287) 75(-35.5,-14.922) 76(-35.5,-15.557) 77(-35.5,-16.192) 78(-35.5,-16.828) 79(-35.5,-17.462) 80(-35.5,-18.098) 81(-35.5,-18.732) 82(-35.5,-19.367) 83(-35.5,-20.002) 84(-35.5,-20.637) 85(-35.5,-21.273) 86(-35.5,-21.907) 87(-35.5,-22.543) 88(-35.5,-23.177) 89(-35.5,-23.812) 90(-35.5,-24.447) 91(-35.5,-25.082) 92(-35.5,-25.717) 93(-35.5,-26.352) 94(-35.5,-26.987) 95(-35.5,-27.622) 96(-35.5,-28.258) 97(-35.5,-28.892) 98(-35.5,-29.527) 99(-35.5,-30.162) 100(-35.5,-30.797) 101(-35.5,-31.432) 102(-35.5,-32.067) 205(35.5,-32.067) 206(35.5,-31.432) 207(35.5,-30.797) 208(35.5,-30.162) 209(35.5,-29.527) 210(35.5,-28.892) 211(35.5,-28.258) 212(35.5,-27.622) 213(35.5,-26.987) 214(35.5,-26.352) 215(35.5,-25.717) 216(35.5,-25.082) 217(35.5,-24.447) 218(35.5,-23.812) 219(35.5,-23.177) 220(35.5,-22.543) 221(35.5,-21.907) 222(35.5,-21.273) 223(35.5,-20.637) 224(35.5,-20.002) 225(35.5,-19.367) 226(35.5,-18.732) 227(35.5,-18.098) 228(35.5,-17.462) 229(35.5,-16.828) 230(35.5,-16.192) 231(35.5,-15.557) 232(35.5,-14.922) 233(35.5,-14.287) 234(35.5,-13.652) 235(35.5,-13.018) 236(35.5,-12.383) 237(35.5,-11.747) 238(35.5,-11.112) 239(35.5,-10.477) 240(35.5,-9.842) 241(35.5,-9.207) 242(35.5,-8.572) 243(35.5,-7.938) 244(35.5,-7.302) 245(35.5,-6.667) 246(35.5,-6.032) 247(35.5,-5.397) 248(35.5,-4.763) 249(35.5,-4.127) 250(35.5,-3.492) 251(35.5,-2.857) 252(35.5,-2.222) 253(35.5,-1.587) 254(35.5,-0.953) 255(35.5,-0.318) 256(35.5,0.318) 257(35.5,0.953) 258(35.5,1.587) 259(35.5,2.222) 260(35.5,2.857) 261(35.5,3.492) 262(35.5,4.127) 263(35.5,4.763) 264(35.5,5.397) 265(35.5,6.032) 266(35.5,6.667) 267(35.5,7.302) 268(35.5,7.938) 269(35.5,8.572) 270(35.5,9.207) 271(35.5,9.842) 272(35.5,10.477) 273(35.5,11.112) 274(35.5,11.747) 275(35.5,12.383) 276(35.5,13.018) 277(35.5,13.652) 278(35.5,14.287) 279(35.5,14.922) 280(35.5,15.557) 281(35.5,16.192) 282(35.5,16.828) 283(35.5,17.462) 284(35.5,18.098) 285(35.5,18.732) 286(35.5,19.367) 287(35.5,20.002) 288(35.5,20.637) 289(35.5,21.273) 290(35.5,21.907) 291(35.5,22.543) 292(35.5,23.177) 293(35.5,23.812) 294(35.5,24.447) 295(35.5,25.082) 296(35.5,25.717) 297(35.5,26.352) 298(35.5,26.987) 299(35.5,27.622) 300(35.5,28.258) 301(35.5,28.892) 302(35.5,29.527) 303(35.5,30.162) 304(35.5,30.797) 305(35.5,31.432) 306(35.5,32.067)
  oval 0.4x2 smd: 103(-32.067,-35.5) 104(-31.432,-35.5) 105(-30.797,-35.5) 106(-30.162,-35.5) 107(-29.527,-35.5) 108(-28.892,-35.5) 109(-28.258,-35.5) 110(-27.622,-35.5) 111(-26.987,-35.5) 112(-26.352,-35.5) 113(-25.717,-35.5) 114(-25.082,-35.5) 115(-24.447,-35.5) 116(-23.812,-35.5) 117(-23.177,-35.5) 118(-22.543,-35.5) 119(-21.907,-35.5) 120(-21.273,-35.5) 121(-20.637,-35.5) 122(-20.002,-35.5) 123(-19.367,-35.5) 124(-18.732,-35.5) 125(-18.098,-35.5) 126(-17.462,-35.5) 127(-16.828,-35.5) 128(-16.192,-35.5) 129(-15.557,-35.5) 130(-14.922,-35.5) 131(-14.287,-35.5) 132(-13.652,-35.5) 133(-13.018,-35.5) 134(-12.383,-35.5) 135(-11.747,-35.5) 136(-11.112,-35.5) 137(-10.477,-35.5) 138(-9.842,-35.5) 139(-9.207,-35.5) 140(-8.572,-35.5) 141(-7.938,-35.5) 142(-7.302,-35.5) 143(-6.667,-35.5) 144(-6.032,-35.5) 145(-5.397,-35.5) 146(-4.763,-35.5) 147(-4.127,-35.5) 148(-3.492,-35.5) 149(-2.857,-35.5) 150(-2.222,-35.5) 151(-1.587,-35.5) 152(-0.953,-35.5) 153(-0.318,-35.5) 154(0.318,-35.5) 155(0.953,-35.5) 156(1.587,-35.5) 157(2.222,-35.5) 158(2.857,-35.5) 159(3.492,-35.5) 160(4.127,-35.5) 161(4.763,-35.5) 162(5.397,-35.5) 163(6.032,-35.5) 164(6.667,-35.5) 165(7.302,-35.5) 166(7.938,-35.5) 167(8.572,-35.5) 168(9.207,-35.5) 169(9.842,-35.5) 170(10.477,-35.5) 171(11.112,-35.5) 172(11.747,-35.5) 173(12.383,-35.5) 174(13.018,-35.5) 175(13.652,-35.5) 176(14.287,-35.5) 177(14.922,-35.5) 178(15.557,-35.5) 179(16.192,-35.5) 180(16.828,-35.5) 181(17.462,-35.5) 182(18.098,-35.5) 183(18.732,-35.5) 184(19.367,-35.5) 185(20.002,-35.5) 186(20.637,-35.5) 187(21.273,-35.5) 188(21.907,-35.5) 189(22.543,-35.5) 190(23.177,-35.5) 191(23.812,-35.5) 192(24.447,-35.5) 193(25.082,-35.5) 194(25.717,-35.5) 195(26.352,-35.5) 196(26.987,-35.5) 197(27.622,-35.5) 198(28.258,-35.5) 199(28.892,-35.5) 200(29.527,-35.5) 201(30.162,-35.5) 202(30.797,-35.5) 203(31.432,-35.5) 204(32.067,-35.5) 307(32.067,35.5) 308(31.432,35.5) 309(30.797,35.5) 310(30.162,35.5) 311(29.527,35.5) 312(28.892,35.5) 313(28.258,35.5) 314(27.622,35.5) 315(26.987,35.5) 316(26.352,35.5) 317(25.717,35.5) 318(25.082,35.5) 319(24.447,35.5) 320(23.812,35.5) 321(23.177,35.5) 322(22.543,35.5) 323(21.907,35.5) 324(21.273,35.5) 325(20.637,35.5) 326(20.002,35.5) 327(19.367,35.5) 328(18.732,35.5) 329(18.098,35.5) 330(17.462,35.5) 331(16.828,35.5) 332(16.192,35.5) 333(15.557,35.5) 334(14.922,35.5) 335(14.287,35.5) 336(13.652,35.5) 337(13.018,35.5) 338(12.383,35.5) 339(11.747,35.5) 340(11.112,35.5) 341(10.477,35.5) 342(9.842,35.5) 343(9.207,35.5) 344(8.572,35.5) 345(7.938,35.5) 346(7.302,35.5) 347(6.667,35.5) 348(6.032,35.5) 349(5.397,35.5) 350(4.763,35.5) 351(4.127,35.5) 352(3.492,35.5) 353(2.857,35.5) 354(2.222,35.5) 355(1.587,35.5) 356(0.953,35.5) 357(0.318,35.5) 358(-0.318,35.5) 359(-0.953,35.5) 360(-1.587,35.5) 361(-2.222,35.5) 362(-2.857,35.5) 363(-3.492,35.5) 364(-4.127,35.5) 365(-4.763,35.5) 366(-5.397,35.5) 367(-6.032,35.5) 368(-6.667,35.5) 369(-7.302,35.5) 370(-7.938,35.5) 371(-8.572,35.5) 372(-9.207,35.5) 373(-9.842,35.5) 374(-10.477,35.5) 375(-11.112,35.5) 376(-11.747,35.5) 377(-12.383,35.5) 378(-13.018,35.5) 379(-13.652,35.5) 380(-14.287,35.5) 381(-14.922,35.5) 382(-15.557,35.5) 383(-16.192,35.5) 384(-16.828,35.5) 385(-17.462,35.5) 386(-18.098,35.5) 387(-18.732,35.5) 388(-19.367,35.5) 389(-20.002,35.5) 390(-20.637,35.5) 391(-21.273,35.5) 392(-21.907,35.5) 393(-22.543,35.5) 394(-23.177,35.5) 395(-23.812,35.5) 396(-24.447,35.5) 397(-25.082,35.5) 398(-25.717,35.5) 399(-26.352,35.5) 400(-26.987,35.5) 401(-27.622,35.5) 402(-28.258,35.5) 403(-28.892,35.5) 404(-29.527,35.5) 405(-30.162,35.5) 406(-30.797,35.5) 407(-31.432,35.5) 408(-32.067,35.5)
Top Overlay:
  circle w0.25: c-35.5,32.818 r0.125
  lines w0.2: -34.1,31.57 -32.6,31.57 -32.6,32.07 -34.1,32.07 ; -34.1,32.07 -34.1,-32.07 -32.07,-34.1 32.07,-34.1 34.1,-32.07 34.1,32.07 32.07,34.1 -32.07,34.1 -34.1,32.07
Mechanical 13:
  lines w0.1: -33.655,-33.655 -33.655,33.655 33.655,33.655 33.655,-33.655 -33.655,-33.655
Mechanical 15:
  lines w0.1: -0.5,0 0.5,0 ; 0,-0.5 0,0.5 ; -36.6,-36.6 -36.6,36.6 36.6,36.6 36.6,-36.6 -36.6,-36.6
3D body: height 2.5, standoff 0, extent -33.655,-33.655 33.655,33.655